# Altium integrated library SI2308BDS-T1-GE3.IntLib: 1 symbol
Pins are listed as number, name and electrical type; pins without a type are passive.

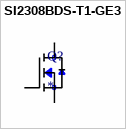
[diagram p0: symbol SI2308BDS-T1-GE3]

## SI2308BDS-T1-GE3
designator Q?
MOSFET N-CH 60V 2.3A SOT23-3 / Manufacturer PN: SI2308BDS-T1-GE3; Vendor: Vishay; Built_By: EMA_UL_Team; Type: DEV; C: Copyright (C) 2015 Accelerated Designs. All rights reserved; Manufacturer_Part_Number: SI2308BDS-T1-GE3; RefDes: RefDes; Value: Value
footprint TO-236
pins: 1 G, 2 S, 3 D